# Altium schematic symbol library 20k_Dual_Gang_POT.SchLib: 1 symbol
Pins are listed as number, name and electrical type; pins without a type are passive.

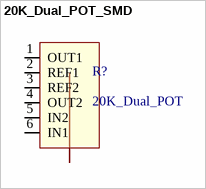
[diagram p0: symbol 20K_Dual_POT_SMD]

## 20K_Dual_POT_SMD
designator R?, comment 20K_Dual_POT
POT 20K OHM 1/20W LOGARITHMIC; Manufacturer: Bourns Inc; Manufacturer Prt #: EVJ-YK1F03705; Digikey Prt #: P2F0203-ND
pins: 1 OUT1, 2 REF1, 3 REF2, 4 OUT2, 5 IN2, 6 IN1